# Altium integrated library TI Data Converters Analog to Digital Converter.IntLib: 2198 symbols (part 23 of 164)
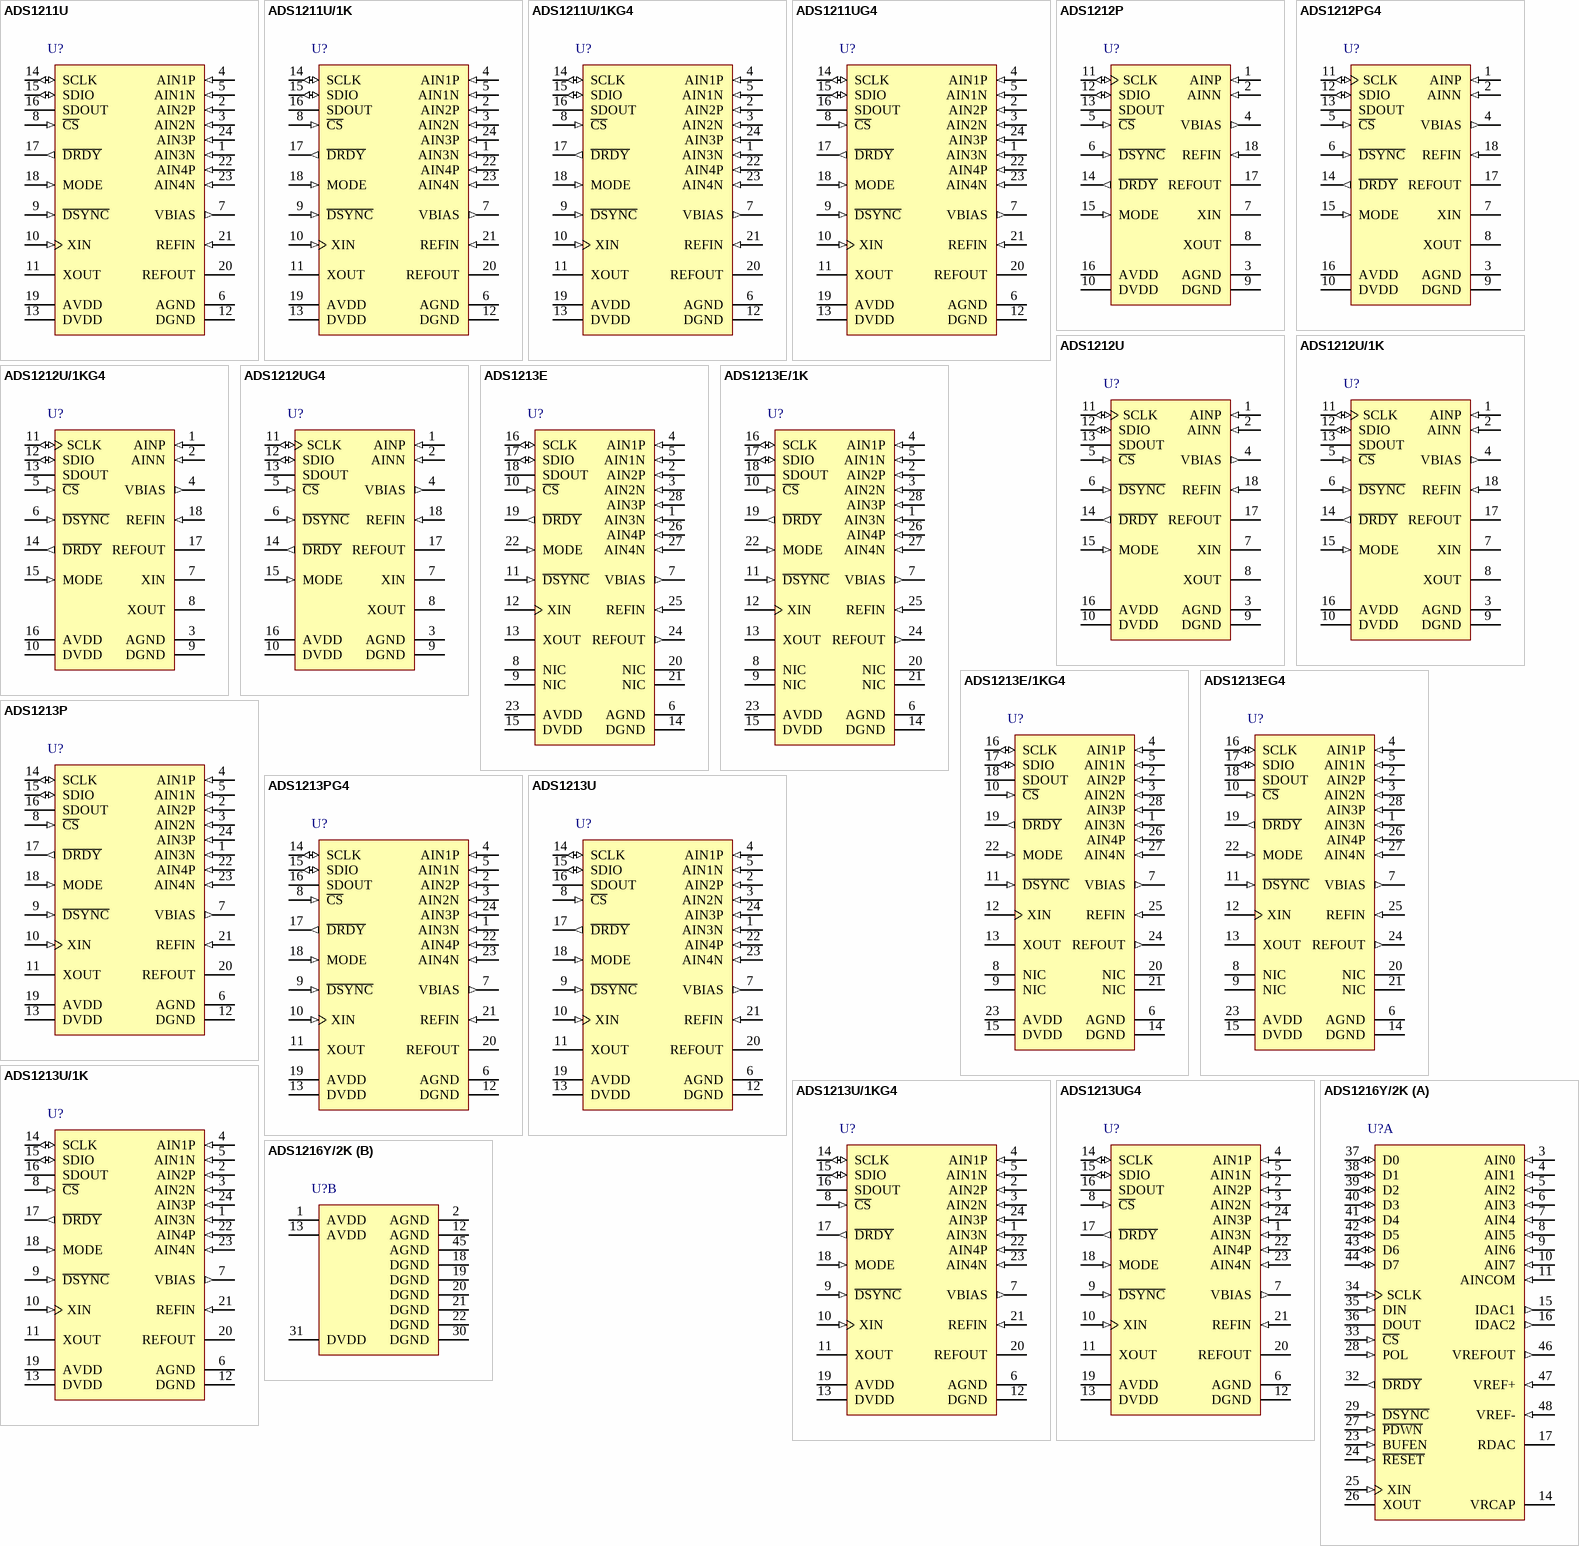
[diagram p148: symbols ADS1211U to ADS1216Y/2K]

## ADS1211UG4
designator U?
24-Bit ADC, -40 to 85 degC, 24-pin SOIC (DW24), Green (RoHS & no Sb/Br); Manufacturer: Texas Instruments; PartNumber: ADS1211UG4; # Input Channels: 4; Analog Voltage AV/DD(Max)(V): 5.25; Analog Voltage AV/DD(Min)(V): 4.75; Architecture: Delta-Sigma; Interface: Serial SPI; Resolution(Bits): 24; Sample Rate (max)(SPS): 16k; SubFamily: Precision ADC (<=10MSPS); DatasheetVersion: SBAS034B; PackageVersion: 4040000-5/G, 01/2011; PackageReference: DW24; PackageDescription: 24-Pin Plastic Small Outline, Body 15.4 x 7.5 mm, Pitch 1.27 mm; Supplier 1: Digi-Key; Supplier Part Number 1: 296-29487-2-ND; Digital Supply(Max)(V): 5.25; Digital Supply(Min)(V): 4.75; Eco-Plan: Green (RoHS & no Sb/Br); Mounting Technology: Surface Mount; Code_JEDEC: MS-013; ComponentLink1Description: Manufacturer URL; ComponentLink1URL: http://www.ti.com/; ComponentLink2Description: Datasheet; ComponentLink2URL: http://www.ti.com/general/docs/lit/getliterature.tsp?genericPartNumber=ADS1211&fileType=pdf; ComponentLink3Description: Package Specification; ComponentLink3URL: http://www.ti.com/litv/pdf/mpds174a
footprint TI-DW24_N (SOIC, 24-Leads, Body 15.4x7.5mm, Pitch 1.27mm, IPC Medium Density)
footprint TI-DW24_L (SOIC, 24-Leads, Body 15.4x7.5mm, Pitch 1.27mm, IPC High Density)
footprint TI-DW24_M (SOIC, 24-Leads, Body 15.4x7.5mm, Pitch 1.27mm, IPC Low Density)
pins: 1 AIN3N (in) "Inverting Input Channel 3.", 2 AIN2P (in) "Noninverting Input Channel 2.", 3 AIN2N (in) "Inverting Input Channel 2.", 4 AIN1P (in) "Noninverting Input Channel 1.", 5 AIN1N (in) "Inverting Input Channel 1.", 6 AGND (power) "Analog Ground.", 7 VBIAS (out) "Bias Voltage Output, +3.3V nominal.", 8 ~{CS} (in) "Chip Select Input.", 9 ~{DSYNC} (in) "Control Input to Synchronize Serial Output Data.", 10 XIN (in) "System Clock Input.", 11 XOUT "System Clock Output.", 12 DGND (power) "Digital Ground.", 13 DVDD (power) "Digital Supply, +5V nominal.", 14 SCLK (io) "Clock Input/Output for serial data transfer.", 15 SDIO (io) "Serial Data Input (can also function as Serial Data Output).", 16 SDOUT (hiz) "Serial Data Output.", 17 ~{DRDY} (out) "Data Ready.", 18 MODE (in) "SCLK Control Input (Master = 1, Slave = 0).", 19 AVDD (power) "Analog Supply, +5V nominal.", 20 REFOUT (hiz) "Reference Output: +2.5V nominal.", 21 REFIN (in) "Reference Input.", 22 AIN4P (in) "Noninverting Input Channel 4.", 23 AIN4N (in) "Inverting Input Channel 4.", 24 AIN3P (in) "Noninverting Input Channel 3."

## ADS1212P
designator U?
22-Bit ADC, -40 to 85 degC, 18-pin DIP (N18), Green (RoHS & no Sb/Br); Manufacturer: Texas Instruments; PartNumber: ADS1212P; # Input Channels: 1; Analog Voltage AV/DD(Max)(V): 5.25; Analog Voltage AV/DD(Min)(V): 4.75; Architecture: Delta-Sigma; Interface: Serial SPI; Resolution(Bits): 22; Sample Rate (max)(SPS): 6.25k; SubFamily: Precision ADC (<=10MSPS); DatasheetVersion: SBAS064B; PackageVersion: 4040049/E, 12/2002; PackageReference: N18; PackageDescription: 18-Pin Plastic In-Line, Body 22.48 x 6.35 mm, Pitch 2.54 mm; Supplier 1: Digi-Key; Supplier Part Number 1: 296-25897-2-ND; Digital Supply(Max)(V): 5.25; Digital Supply(Min)(V): 4.75; Eco-Plan: Green (RoHS & no Sb/Br); Mounting Technology: Through Hole; Code_JEDEC: MS-001; ComponentLink1Description: Manufacturer URL; ComponentLink1URL: http://www.ti.com/; ComponentLink2Description: Datasheet; ComponentLink2URL: http://www.ti.com/general/docs/lit/getliterature.tsp?genericPartNumber=ADS1212&fileType=pdf; ComponentLink3Description: Package Specification; ComponentLink3URL: http://www.ti.com/lit/ml/mpdi002c/mpdi002c.pdf
footprint TI-N18 (DIP, 18-Leads, Body 22.48x6.35 mm, Pitch 2.54 mm)
pins: 1 AINP (in) "Noninverting Input.", 2 AINN (in) "Inverting Input.", 3 AGND (power) "Analog Ground.", 4 VBIAS (out) "Bias Voltage Output, +3.3V nominal.", 5 ~{CS} (in) "Chip Select Input.", 6 ~{DSYNC} (in) "Control Input to Synchronize Serial Output Data.", 7 XIN "System Clock Input.", 8 XOUT "System Clock Output.", 9 DGND (power) "Digital Ground.", 10 DVDD (power) "Digital Supply, +5V nominal.", 11 SCLK (io) "Clock Input/Output for serial data transfer.", 12 SDIO (io) "Serial Data Input (can also function as Serial Data Output).", 13 SDOUT (hiz) "Serial Data Output.", 14 ~{DRDY} (out) "Data Ready.", 15 MODE (in) "SCLK Control Input (Master = 1, Slave = 0).", 16 AVDD (power) "Analog Supply, +5V nominal.", 17 REFOUT (hiz) "Reference Output, +2.5V nominal.", 18 REFIN (in) "Reference Input."

## ADS1212PG4
designator U?
22-Bit ADC, -40 to 85 degC, 18-pin DIP (N18), Green (RoHS & no Sb/Br); Manufacturer: Texas Instruments; PartNumber: ADS1212PG4; # Input Channels: 1; Analog Voltage AV/DD(Max)(V): 5.25; Analog Voltage AV/DD(Min)(V): 4.75; Architecture: Delta-Sigma; Interface: Serial SPI; Resolution(Bits): 22; Sample Rate (max)(SPS): 6.25k; SubFamily: Precision ADC (<=10MSPS); DatasheetVersion: SBAS064B; PackageVersion: 4040049/E, 12/2002; PackageReference: N18; PackageDescription: 18-Pin Plastic In-Line, Body 22.48 x 6.35 mm, Pitch 2.54 mm; Supplier 1: Digi-Key; Supplier Part Number 1: ADS1255IDBRG4-ND; Digital Supply(Max)(V): 5.25; Digital Supply(Min)(V): 4.75; Eco-Plan: Green (RoHS & no Sb/Br); Mounting Technology: Through Hole; Code_JEDEC: MS-001; ComponentLink1Description: Manufacturer URL; ComponentLink1URL: http://www.ti.com/; ComponentLink2Description: Datasheet; ComponentLink2URL: http://www.ti.com/general/docs/lit/getliterature.tsp?genericPartNumber=ADS1212&fileType=pdf; ComponentLink3Description: Package Specification; ComponentLink3URL: http://www.ti.com/lit/ml/mpdi002c/mpdi002c.pdf
footprint TI-N18 (DIP, 18-Leads, Body 22.48x6.35 mm, Pitch 2.54 mm)
pins: 1 AINP (in) "Noninverting Input.", 2 AINN (in) "Inverting Input.", 3 AGND (power) "Analog Ground.", 4 VBIAS (out) "Bias Voltage Output, +3.3V nominal.", 5 ~{CS} (in) "Chip Select Input.", 6 ~{DSYNC} (in) "Control Input to Synchronize Serial Output Data.", 7 XIN "System Clock Input.", 8 XOUT "System Clock Output.", 9 DGND (power) "Digital Ground.", 10 DVDD (power) "Digital Supply, +5V nominal.", 11 SCLK (io) "Clock Input/Output for serial data transfer.", 12 SDIO (io) "Serial Data Input (can also function as Serial Data Output).", 13 SDOUT (hiz) "Serial Data Output.", 14 ~{DRDY} (out) "Data Ready.", 15 MODE (in) "SCLK Control Input (Master = 1, Slave = 0).", 16 AVDD (power) "Analog Supply, +5V nominal.", 17 REFOUT (hiz) "Reference Output, +2.5V nominal.", 18 REFIN (in) "Reference Input."

## ADS1212U
designator U?
22-Bit ADC, -40 to 85 degC, 18-pin SOP (DTC18), Green (RoHS & no Sb/Br); Manufacturer: Texas Instruments; PartNumber: ADS1212U; # Input Channels: 1; Analog Voltage AV/DD(Max)(V): 5.25; Analog Voltage AV/DD(Min)(V): 4.75; Architecture: Delta-Sigma; Interface: Serial SPI; Resolution(Bits): 22; Sample Rate (max)(SPS): 6.25k; SubFamily: Precision ADC (<=10MSPS); DatasheetVersion: SBAS064B; PackageVersion: 4202498/A, 03/2001; PackageReference: DTC18; PackageDescription: 18-Pin Plastic Small Outline, Body 7.5 x 11.55 mm, Pitch 1.27 mm; Supplier 1: Digi-Key; Supplier Part Number 1: 296-15743-2-ND; Digital Supply(Max)(V): 5.25; Digital Supply(Min)(V): 4.75; Eco-Plan: Green (RoHS & no Sb/Br); Mounting Technology: Surface Mount; Code_JEDEC: MS-013-AB; ComponentLink1Description: Manufacturer URL; ComponentLink1URL: http://www.ti.com/; ComponentLink2Description: Datasheet; ComponentLink2URL: http://www.ti.com/general/docs/lit/getliterature.tsp?genericPartNumber=ADS1212&fileType=pdf; ComponentLink3Description: Package Specification; ComponentLink3URL: http://www.ti.com/litv/pdf/mpds095
footprint TI-DTC18_N (SOP, 18-Leads, Body 11.5x7.5mm, Pitch 1.27mm, IPC Medium Density)
footprint TI-DTC18_L (SOP, 18-Leads, Body 11.5x7.5mm, Pitch 1.27mm, IPC High Density)
footprint TI-DTC18_M (SOP, 18-Leads, Body 11.5x7.5mm, Pitch 1.27mm, IPC Low Density)
pins: 1 AINP (in) "Noninverting Input.", 2 AINN (in) "Inverting Input.", 3 AGND (power) "Analog Ground.", 4 VBIAS (out) "Bias Voltage Output, +3.3V nominal.", 5 ~{CS} (in) "Chip Select Input.", 6 ~{DSYNC} (in) "Control Input to Synchronize Serial Output Data.", 7 XIN "System Clock Input.", 8 XOUT "System Clock Output.", 9 DGND (power) "Digital Ground.", 10 DVDD (power) "Digital Supply, +5V nominal.", 11 SCLK (io) "Clock Input/Output for serial data transfer.", 12 SDIO (io) "Serial Data Input (can also function as Serial Data Output).", 13 SDOUT (hiz) "Serial Data Output.", 14 ~{DRDY} (out) "Data Ready.", 15 MODE (in) "SCLK Control Input (Master = 1, Slave = 0).", 16 AVDD (power) "Analog Supply, +5V nominal.", 17 REFOUT (hiz) "Reference Output, +2.5V nominal.", 18 REFIN (in) "Reference Input."

## ADS1212U/1K
designator U?
22-Bit ADC, -40 to 85 degC, 18-pin SOP (DTC18), Green (RoHS & no Sb/Br); Manufacturer: Texas Instruments; PartNumber: ADS1212U/1K; # Input Channels: 1; Analog Voltage AV/DD(Max)(V): 5.25; Analog Voltage AV/DD(Min)(V): 4.75; Architecture: Delta-Sigma; Interface: Serial SPI; Resolution(Bits): 22; Sample Rate (max)(SPS): 6.25k; SubFamily: Precision ADC (<=10MSPS); DatasheetVersion: SBAS064B; PackageVersion: 4202498/A, 03/2001; PackageReference: DTC18; PackageDescription: 18-Pin Plastic Small Outline, Body 7.5 x 11.55 mm, Pitch 1.27 mm; Supplier 1: Digi-Key; Supplier Part Number 1: ADS1255IDBTG4-ND; Digital Supply(Max)(V): 5.25; Digital Supply(Min)(V): 4.75; Eco-Plan: Green (RoHS & no Sb/Br); Mounting Technology: Surface Mount; Code_JEDEC: MS-013-AB; ComponentLink1Description: Manufacturer URL; ComponentLink1URL: http://www.ti.com/; ComponentLink2Description: Datasheet; ComponentLink2URL: http://www.ti.com/general/docs/lit/getliterature.tsp?genericPartNumber=ADS1212&fileType=pdf; ComponentLink3Description: Package Specification; ComponentLink3URL: http://www.ti.com/litv/pdf/mpds095
footprint TI-DTC18_N (SOP, 18-Leads, Body 11.5x7.5mm, Pitch 1.27mm, IPC Medium Density)
footprint TI-DTC18_L (SOP, 18-Leads, Body 11.5x7.5mm, Pitch 1.27mm, IPC High Density)
footprint TI-DTC18_M (SOP, 18-Leads, Body 11.5x7.5mm, Pitch 1.27mm, IPC Low Density)
pins: 1 AINP (in) "Noninverting Input.", 2 AINN (in) "Inverting Input.", 3 AGND (power) "Analog Ground.", 4 VBIAS (out) "Bias Voltage Output, +3.3V nominal.", 5 ~{CS} (in) "Chip Select Input.", 6 ~{DSYNC} (in) "Control Input to Synchronize Serial Output Data.", 7 XIN "System Clock Input.", 8 XOUT "System Clock Output.", 9 DGND (power) "Digital Ground.", 10 DVDD (power) "Digital Supply, +5V nominal.", 11 SCLK (io) "Clock Input/Output for serial data transfer.", 12 SDIO (io) "Serial Data Input (can also function as Serial Data Output).", 13 SDOUT (hiz) "Serial Data Output.", 14 ~{DRDY} (out) "Data Ready.", 15 MODE (in) "SCLK Control Input (Master = 1, Slave = 0).", 16 AVDD (power) "Analog Supply, +5V nominal.", 17 REFOUT (hiz) "Reference Output, +2.5V nominal.", 18 REFIN (in) "Reference Input."

## ADS1212U/1KG4
designator U?
22-Bit ADC, -40 to 85 degC, 18-pin SOP (DTC18), Green (RoHS & no Sb/Br); Manufacturer: Texas Instruments; PartNumber: ADS1212U/1KG4; # Input Channels: 1; Analog Voltage AV/DD(Max)(V): 5.25; Analog Voltage AV/DD(Min)(V): 4.75; Architecture: Delta-Sigma; Interface: Serial SPI; Resolution(Bits): 22; Sample Rate (max)(SPS): 6.25k; SubFamily: Precision ADC (<=10MSPS); DatasheetVersion: SBAS064B; PackageVersion: 4202498/A, 03/2001; PackageReference: DTC18; PackageDescription: 18-Pin Plastic Small Outline, Body 7.5 x 11.55 mm, Pitch 1.27 mm; Supplier 1: Digi-Key; Supplier Part Number 1: 296-32826-5-ND; Digital Supply(Max)(V): 5.25; Digital Supply(Min)(V): 4.75; Eco-Plan: Green (RoHS & no Sb/Br); Mounting Technology: Surface Mount; Code_JEDEC: MS-013-AB; ComponentLink1Description: Manufacturer URL; ComponentLink1URL: http://www.ti.com/; ComponentLink2Description: Datasheet; ComponentLink2URL: http://www.ti.com/general/docs/lit/getliterature.tsp?genericPartNumber=ADS1212&fileType=pdf; ComponentLink3Description: Package Specification; ComponentLink3URL: http://www.ti.com/litv/pdf/mpds095
footprint TI-DTC18_N (SOP, 18-Leads, Body 11.5x7.5mm, Pitch 1.27mm, IPC Medium Density)
footprint TI-DTC18_L (SOP, 18-Leads, Body 11.5x7.5mm, Pitch 1.27mm, IPC High Density)
footprint TI-DTC18_M (SOP, 18-Leads, Body 11.5x7.5mm, Pitch 1.27mm, IPC Low Density)
pins: 1 AINP (in) "Noninverting Input.", 2 AINN (in) "Inverting Input.", 3 AGND (power) "Analog Ground.", 4 VBIAS (out) "Bias Voltage Output, +3.3V nominal.", 5 ~{CS} (in) "Chip Select Input.", 6 ~{DSYNC} (in) "Control Input to Synchronize Serial Output Data.", 7 XIN "System Clock Input.", 8 XOUT "System Clock Output.", 9 DGND (power) "Digital Ground.", 10 DVDD (power) "Digital Supply, +5V nominal.", 11 SCLK (io) "Clock Input/Output for serial data transfer.", 12 SDIO (io) "Serial Data Input (can also function as Serial Data Output).", 13 SDOUT (hiz) "Serial Data Output.", 14 ~{DRDY} (out) "Data Ready.", 15 MODE (in) "SCLK Control Input (Master = 1, Slave = 0).", 16 AVDD (power) "Analog Supply, +5V nominal.", 17 REFOUT (hiz) "Reference Output, +2.5V nominal.", 18 REFIN (in) "Reference Input."

## ADS1212UG4
designator U?
22-Bit ADC, -40 to 85 degC, 18-pin SOP (DTC18), Green (RoHS & no Sb/Br); Manufacturer: Texas Instruments; PartNumber: ADS1212UG4; # Input Channels: 1; Analog Voltage AV/DD(Max)(V): 5.25; Analog Voltage AV/DD(Min)(V): 4.75; Architecture: Delta-Sigma; Interface: Serial SPI; Resolution(Bits): 22; Sample Rate (max)(SPS): 6.25k; SubFamily: Precision ADC (<=10MSPS); DatasheetVersion: SBAS064B; PackageVersion: 4202498/A, 03/2001; PackageReference: DTC18; PackageDescription: 18-Pin Plastic Small Outline, Body 7.5 x 11.55 mm, Pitch 1.27 mm; Supplier 1: Digi-Key; Supplier Part Number 1: ADS8345N/1K-ND; Digital Supply(Max)(V): 5.25; Digital Supply(Min)(V): 4.75; Eco-Plan: Green (RoHS & no Sb/Br); Mounting Technology: Surface Mount; Code_JEDEC: MS-013-AB; ComponentLink1Description: Manufacturer URL; ComponentLink1URL: http://www.ti.com/; ComponentLink2Description: Datasheet; ComponentLink2URL: http://www.ti.com/general/docs/lit/getliterature.tsp?genericPartNumber=ADS1212&fileType=pdf; ComponentLink3Description: Package Specification; ComponentLink3URL: http://www.ti.com/litv/pdf/mpds095
footprint TI-DTC18_N (SOP, 18-Leads, Body 11.5x7.5mm, Pitch 1.27mm, IPC Medium Density)
footprint TI-DTC18_L (SOP, 18-Leads, Body 11.5x7.5mm, Pitch 1.27mm, IPC High Density)
footprint TI-DTC18_M (SOP, 18-Leads, Body 11.5x7.5mm, Pitch 1.27mm, IPC Low Density)
pins: 1 AINP (in) "Noninverting Input.", 2 AINN (in) "Inverting Input.", 3 AGND (power) "Analog Ground.", 4 VBIAS (out) "Bias Voltage Output, +3.3V nominal.", 5 ~{CS} (in) "Chip Select Input.", 6 ~{DSYNC} (in) "Control Input to Synchronize Serial Output Data.", 7 XIN "System Clock Input.", 8 XOUT "System Clock Output.", 9 DGND (power) "Digital Ground.", 10 DVDD (power) "Digital Supply, +5V nominal.", 11 SCLK (io) "Clock Input/Output for serial data transfer.", 12 SDIO (io) "Serial Data Input (can also function as Serial Data Output).", 13 SDOUT (hiz) "Serial Data Output.", 14 ~{DRDY} (out) "Data Ready.", 15 MODE (in) "SCLK Control Input (Master = 1, Slave = 0).", 16 AVDD (power) "Analog Supply, +5V nominal.", 17 REFOUT (hiz) "Reference Output, +2.5V nominal.", 18 REFIN (in) "Reference Input."

## ADS1213E
designator U?
22-Bit ADC, -40 to 85 degC, 28-pin SOP (DB28), Green (RoHS & no Sb/Br); Manufacturer: Texas Instruments; PartNumber: ADS1213E; # Input Channels: 4; Analog Voltage AV/DD(Max)(V): 5.25; Analog Voltage AV/DD(Min)(V): 4.75; Architecture: Delta-Sigma; Interface: Serial SPI; Resolution(Bits): 22; Sample Rate (max)(SPS): 6.25k; SubFamily: Precision ADC (<=10MSPS); DatasheetVersion: SBAS064B; PackageVersion: 4040065/E, 12/2001; PackageReference: DB28; PackageDescription: 28-Pin Plastic Small Outline, Body 10.2 X 5.3 mm, Pitch 0.65 mm; Supplier 1: Digi-Key; Supplier Part Number 1: ADS8345N/1KG4-ND; Digital Supply(Max)(V): 5.25; Digital Supply(Min)(V): 4.75; Eco-Plan: Green (RoHS & no Sb/Br); Mounting Technology: Surface Mount; Code_JEDEC: MO-150; ComponentLink1Description: Manufacturer URL; ComponentLink1URL: http://www.ti.com/; ComponentLink2Description: Datasheet; ComponentLink2URL: http://www.ti.com/general/docs/lit/getliterature.tsp?genericPartNumber=ADS1213&fileType=pdf; ComponentLink3Description: Package Specification; ComponentLink3URL: http://www.ti.com/lit/ml/msso002e/msso002e.pdf
footprint TI-DB28_N (SOP, 28-Leads, Body 10.2x5.3mm, Pitch 0.65mm, IPC Medium Density)
footprint TI-DB28_L (SOP, 28-Leads, Body 10.2x5.3mm, Pitch 0.65mm, IPC High Density)
footprint TI-DB28_M (SOP, 28-Leads, Body 10.2x5.3mm, Pitch 0.65mm, IPC Low Density)
pins: 1 AIN3N (in) "Inverting Input Channel 3.", 2 AIN2P (in) "Noninverting Input Channel 2.", 3 AIN2N (in) "Inverting Input Channel 2.", 4 AIN1P (in) "Noninverting Input Channel 1.", 5 AIN1N (in) "Inverting Input Channel 1.", 6 AGND (power) "Analog Ground.", 7 VBIAS (out) "Bias Voltage Output, +3.3V nominal.", 8 NIC "Not Internally Connected.", 9 NIC "Not Internally Connected.", 10 ~{CS} (in) "Chip Select Input.", 11 ~{DSYNC} (in) "Control Input to Synchronize Serial Output Data.", 12 XIN "System Clock Input.", 13 XOUT "System Clock Output.", 14 DGND (power) "Digital Ground.", 15 DVDD (power) "Digital Supply, +5V nominal.", 16 SCLK (io) "Clock Input/Output for serial data transfer.", 17 SDIO (io) "Serial Data Input (can also function as Serial Data Output).", 18 SDOUT (hiz) "Serial Data Output.", 19 ~{DRDY} (out) "Data Ready.", 20 NIC "Not Internally Connected.", 21 NIC "Not Internally Connected.", 22 MODE (in) "SCLK Control Input (Master = 1, Slave = 0).", 23 AVDD (power) "Analog Supply, +5V nominal.", 24 REFOUT (out) "Reference Output: +2.5V nominal.", 25 REFIN (in) "Reference Input.", 26 AIN4P (in) "Noninverting Input Channel 4.", 27 AIN4N (in) "Inverting Input Channel 4.", 28 AIN3P (in) "Noninverting Input Channel 3."

## ADS1213E/1K
designator U?
22-Bit ADC, -40 to 85 degC, 28-pin SOP (DB28), Green (RoHS & no Sb/Br); Manufacturer: Texas Instruments; PartNumber: ADS1213E/1K; # Input Channels: 4; Analog Voltage AV/DD(Max)(V): 5.25; Analog Voltage AV/DD(Min)(V): 4.75; Architecture: Delta-Sigma; Interface: Serial SPI; Resolution(Bits): 22; Sample Rate (max)(SPS): 6.25k; SubFamily: Precision ADC (<=10MSPS); DatasheetVersion: SBAS064B; PackageVersion: 4040065/E, 12/2001; PackageReference: DB28; PackageDescription: 28-Pin Plastic Small Outline, Body 10.2 X 5.3 mm, Pitch 0.65 mm; Supplier 1: Digi-Key; Supplier Part Number 1: 296-11626-5-ND; Digital Supply(Max)(V): 5.25; Digital Supply(Min)(V): 4.75; Eco-Plan: Green (RoHS & no Sb/Br); Mounting Technology: Surface Mount; Code_JEDEC: MO-150; ComponentLink1Description: Manufacturer URL; ComponentLink1URL: http://www.ti.com/; ComponentLink2Description: Datasheet; ComponentLink2URL: http://www.ti.com/general/docs/lit/getliterature.tsp?genericPartNumber=ADS1213&fileType=pdf; ComponentLink3Description: Package Specification; ComponentLink3URL: http://www.ti.com/lit/ml/msso002e/msso002e.pdf
footprint TI-DB28_N (SOP, 28-Leads, Body 10.2x5.3mm, Pitch 0.65mm, IPC Medium Density)
footprint TI-DB28_L (SOP, 28-Leads, Body 10.2x5.3mm, Pitch 0.65mm, IPC High Density)
footprint TI-DB28_M (SOP, 28-Leads, Body 10.2x5.3mm, Pitch 0.65mm, IPC Low Density)
pins: 1 AIN3N (in) "Inverting Input Channel 3.", 2 AIN2P (in) "Noninverting Input Channel 2.", 3 AIN2N (in) "Inverting Input Channel 2.", 4 AIN1P (in) "Noninverting Input Channel 1.", 5 AIN1N (in) "Inverting Input Channel 1.", 6 AGND (power) "Analog Ground.", 7 VBIAS (out) "Bias Voltage Output, +3.3V nominal.", 8 NIC "Not Internally Connected.", 9 NIC "Not Internally Connected.", 10 ~{CS} (in) "Chip Select Input.", 11 ~{DSYNC} (in) "Control Input to Synchronize Serial Output Data.", 12 XIN "System Clock Input.", 13 XOUT "System Clock Output.", 14 DGND (power) "Digital Ground.", 15 DVDD (power) "Digital Supply, +5V nominal.", 16 SCLK (io) "Clock Input/Output for serial data transfer.", 17 SDIO (io) "Serial Data Input (can also function as Serial Data Output).", 18 SDOUT (hiz) "Serial Data Output.", 19 ~{DRDY} (out) "Data Ready.", 20 NIC "Not Internally Connected.", 21 NIC "Not Internally Connected.", 22 MODE (in) "SCLK Control Input (Master = 1, Slave = 0).", 23 AVDD (power) "Analog Supply, +5V nominal.", 24 REFOUT (out) "Reference Output: +2.5V nominal.", 25 REFIN (in) "Reference Input.", 26 AIN4P (in) "Noninverting Input Channel 4.", 27 AIN4N (in) "Inverting Input Channel 4.", 28 AIN3P (in) "Noninverting Input Channel 3."

## ADS1213E/1KG4
designator U?
22-Bit ADC, -40 to 85 degC, 28-pin SOP (DB28), Green (RoHS & no Sb/Br); Manufacturer: Texas Instruments; PartNumber: ADS1213E/1KG4; # Input Channels: 4; Analog Voltage AV/DD(Max)(V): 5.25; Analog Voltage AV/DD(Min)(V): 4.75; Architecture: Delta-Sigma; Interface: Serial SPI; Resolution(Bits): 22; Sample Rate (max)(SPS): 6.25k; SubFamily: Precision ADC (<=10MSPS); DatasheetVersion: SBAS064B; PackageVersion: 4040065/E, 12/2001; PackageReference: DB28; PackageDescription: 28-Pin Plastic Small Outline, Body 10.2 X 5.3 mm, Pitch 0.65 mm; Supplier 1: Digi-Key; Supplier Part Number 1: ADS8345NBG4-ND; Digital Supply(Max)(V): 5.25; Digital Supply(Min)(V): 4.75; Eco-Plan: Green (RoHS & no Sb/Br); Mounting Technology: Surface Mount; Code_JEDEC: MO-150; ComponentLink1Description: Manufacturer URL; ComponentLink1URL: http://www.ti.com/; ComponentLink2Description: Datasheet; ComponentLink2URL: http://www.ti.com/general/docs/lit/getliterature.tsp?genericPartNumber=ADS1213&fileType=pdf; ComponentLink3Description: Package Specification; ComponentLink3URL: http://www.ti.com/lit/ml/msso002e/msso002e.pdf
footprint TI-DB28_N (SOP, 28-Leads, Body 10.2x5.3mm, Pitch 0.65mm, IPC Medium Density)
footprint TI-DB28_L (SOP, 28-Leads, Body 10.2x5.3mm, Pitch 0.65mm, IPC High Density)
footprint TI-DB28_M (SOP, 28-Leads, Body 10.2x5.3mm, Pitch 0.65mm, IPC Low Density)
pins: 1 AIN3N (in) "Inverting Input Channel 3.", 2 AIN2P (in) "Noninverting Input Channel 2.", 3 AIN2N (in) "Inverting Input Channel 2.", 4 AIN1P (in) "Noninverting Input Channel 1.", 5 AIN1N (in) "Inverting Input Channel 1.", 6 AGND (power) "Analog Ground.", 7 VBIAS (out) "Bias Voltage Output, +3.3V nominal.", 8 NIC "Not Internally Connected.", 9 NIC "Not Internally Connected.", 10 ~{CS} (in) "Chip Select Input.", 11 ~{DSYNC} (in) "Control Input to Synchronize Serial Output Data.", 12 XIN "System Clock Input.", 13 XOUT "System Clock Output.", 14 DGND (power) "Digital Ground.", 15 DVDD (power) "Digital Supply, +5V nominal.", 16 SCLK (io) "Clock Input/Output for serial data transfer.", 17 SDIO (io) "Serial Data Input (can also function as Serial Data Output).", 18 SDOUT (hiz) "Serial Data Output.", 19 ~{DRDY} (out) "Data Ready.", 20 NIC "Not Internally Connected.", 21 NIC "Not Internally Connected.", 22 MODE (in) "SCLK Control Input (Master = 1, Slave = 0).", 23 AVDD (power) "Analog Supply, +5V nominal.", 24 REFOUT (out) "Reference Output: +2.5V nominal.", 25 REFIN (in) "Reference Input.", 26 AIN4P (in) "Noninverting Input Channel 4.", 27 AIN4N (in) "Inverting Input Channel 4.", 28 AIN3P (in) "Noninverting Input Channel 3."

## ADS1213EG4
designator U?
22-Bit ADC, -40 to 85 degC, 28-pin SOP (DB28), Green (RoHS & no Sb/Br); Manufacturer: Texas Instruments; PartNumber: ADS1213EG4; # Input Channels: 4; Analog Voltage AV/DD(Max)(V): 5.25; Analog Voltage AV/DD(Min)(V): 4.75; Architecture: Delta-Sigma; Interface: Serial SPI; Resolution(Bits): 22; Sample Rate (max)(SPS): 6.25k; SubFamily: Precision ADC (<=10MSPS); DatasheetVersion: SBAS064B; PackageVersion: 4040065/E, 12/2001; PackageReference: DB28; PackageDescription: 28-Pin Plastic Small Outline, Body 10.2 X 5.3 mm, Pitch 0.65 mm; Supplier 1: Digi-Key; Supplier Part Number 1: ADS8345NG4-ND; Digital Supply(Max)(V): 5.25; Digital Supply(Min)(V): 4.75; Eco-Plan: Green (RoHS & no Sb/Br); Mounting Technology: Surface Mount; Code_JEDEC: MO-150; ComponentLink1Description: Manufacturer URL; ComponentLink1URL: http://www.ti.com/; ComponentLink2Description: Datasheet; ComponentLink2URL: http://www.ti.com/general/docs/lit/getliterature.tsp?genericPartNumber=ADS1213&fileType=pdf; ComponentLink3Description: Package Specification; ComponentLink3URL: http://www.ti.com/lit/ml/msso002e/msso002e.pdf
footprint TI-DB28_N (SOP, 28-Leads, Body 10.2x5.3mm, Pitch 0.65mm, IPC Medium Density)
footprint TI-DB28_L (SOP, 28-Leads, Body 10.2x5.3mm, Pitch 0.65mm, IPC High Density)
footprint TI-DB28_M (SOP, 28-Leads, Body 10.2x5.3mm, Pitch 0.65mm, IPC Low Density)
pins: 1 AIN3N (in) "Inverting Input Channel 3.", 2 AIN2P (in) "Noninverting Input Channel 2.", 3 AIN2N (in) "Inverting Input Channel 2.", 4 AIN1P (in) "Noninverting Input Channel 1.", 5 AIN1N (in) "Inverting Input Channel 1.", 6 AGND (power) "Analog Ground.", 7 VBIAS (out) "Bias Voltage Output, +3.3V nominal.", 8 NIC "Not Internally Connected.", 9 NIC "Not Internally Connected.", 10 ~{CS} (in) "Chip Select Input.", 11 ~{DSYNC} (in) "Control Input to Synchronize Serial Output Data.", 12 XIN "System Clock Input.", 13 XOUT "System Clock Output.", 14 DGND (power) "Digital Ground.", 15 DVDD (power) "Digital Supply, +5V nominal.", 16 SCLK (io) "Clock Input/Output for serial data transfer.", 17 SDIO (io) "Serial Data Input (can also function as Serial Data Output).", 18 SDOUT (hiz) "Serial Data Output.", 19 ~{DRDY} (out) "Data Ready.", 20 NIC "Not Internally Connected.", 21 NIC "Not Internally Connected.", 22 MODE (in) "SCLK Control Input (Master = 1, Slave = 0).", 23 AVDD (power) "Analog Supply, +5V nominal.", 24 REFOUT (out) "Reference Output: +2.5V nominal.", 25 REFIN (in) "Reference Input.", 26 AIN4P (in) "Noninverting Input Channel 4.", 27 AIN4N (in) "Inverting Input Channel 4.", 28 AIN3P (in) "Noninverting Input Channel 3."

## ADS1213P
designator U?
22-Bit ADC, -40 to 85 degC, 24-pin DIP (NT24), Green (RoHS & no Sb/Br); Manufacturer: Texas Instruments; PartNumber: ADS1213P; # Input Channels: 4; Analog Voltage AV/DD(Max)(V): 5.25; Analog Voltage AV/DD(Min)(V): 4.75; Architecture: Delta-Sigma; Interface: Serial SPI; Resolution(Bits): 22; Sample Rate (max)(SPS): 6.25k; SubFamily: Precision ADC (<=10MSPS); DatasheetVersion: SBAS064B; PackageVersion: 4040050/C, 04/2009; PackageReference: NT24; PackageDescription: 24-Pin Plastic Dual-In-Line Package, Body 31.64 x 6.73 mm, Pitch 2.54 mm; Supplier 1: Digi-Key; Supplier Part Number 1: ADS8344N-ND; Digital Supply(Max)(V): 5.25; Digital Supply(Min)(V): 4.75; Eco-Plan: Green (RoHS & no Sb/Br); Mounting Technology: Through Hole; ComponentLink1Description: Manufacturer URL; ComponentLink1URL: http://www.ti.com/; ComponentLink2Description: Datasheet; ComponentLink2URL: http://www.ti.com/general/docs/lit/getliterature.tsp?genericPartNumber=ADS1213&fileType=pdf; ComponentLink3Description: Package Specification; ComponentLink3URL: http://www.ti.com/litv/pdf/mpdi004a
footprint TI-NT24 (DIP, 24-Leads, Body 31.64x6.73mm, Pitch 2.54mm)
pins: 1 AIN3N (in) "Inverting Input Channel 3.", 2 AIN2P (in) "Noninverting Input Channel 2.", 3 AIN2N (in) "Inverting Input Channel 2.", 4 AIN1P (in) "Noninverting Input Channel 1.", 5 AIN1N (in) "Inverting Input Channel 1.", 6 AGND (power) "Analog Ground.", 7 VBIAS (out) "Bias Voltage Output, +3.3V nominal.", 8 ~{CS} (in) "Chip Select Input.", 9 ~{DSYNC} (in) "Control Input to Synchronize Serial Output Data.", 10 XIN (in) "System Clock Input.", 11 XOUT "System Clock Output.", 12 DGND (power) "Digital Ground.", 13 DVDD (power) "Digital Supply, +5V nominal.", 14 SCLK (io) "Clock Input/Output for serial data transfer.", 15 SDIO (io) "Serial Data Input (can also function as Serial Data Output).", 16 SDOUT (hiz) "Serial Data Output.", 17 ~{DRDY} (out) "Data Ready.", 18 MODE (in) "SCLK Control Input (Master = 1, Slave = 0).", 19 AVDD (power) "Analog Supply, +5V nominal.", 20 REFOUT (hiz) "Reference Output: +2.5V nominal.", 21 REFIN (in) "Reference Input.", 22 AIN4P (in) "Noninverting Input Channel 4.", 23 AIN4N (in) "Inverting Input Channel 4.", 24 AIN3P (in) "Noninverting Input Channel 3."

## ADS1213PG4
designator U?
22-Bit ADC, -40 to 85 degC, 24-pin DIP (NT24), Green (RoHS & no Sb/Br); Manufacturer: Texas Instruments; PartNumber: ADS1213PG4; # Input Channels: 4; Analog Voltage AV/DD(Max)(V): 5.25; Analog Voltage AV/DD(Min)(V): 4.75; Architecture: Delta-Sigma; Interface: Serial SPI; Resolution(Bits): 22; Sample Rate (max)(SPS): 6.25k; SubFamily: Precision ADC (<=10MSPS); DatasheetVersion: SBAS064B; PackageVersion: 4040050/C, 04/2009; PackageReference: NT24; PackageDescription: 24-Pin Plastic Dual-In-Line Package, Body 31.64 x 6.73 mm, Pitch 2.54 mm; Supplier 1: Digi-Key; Supplier Part Number 1: ADS8344N/1K-ND; Digital Supply(Max)(V): 5.25; Digital Supply(Min)(V): 4.75; Eco-Plan: Green (RoHS & no Sb/Br); Mounting Technology: Through Hole; ComponentLink1Description: Manufacturer URL; ComponentLink1URL: http://www.ti.com/; ComponentLink2Description: Datasheet; ComponentLink2URL: http://www.ti.com/general/docs/lit/getliterature.tsp?genericPartNumber=ADS1213&fileType=pdf; ComponentLink3Description: Package Specification; ComponentLink3URL: http://www.ti.com/litv/pdf/mpdi004a
footprint TI-NT24 (DIP, 24-Leads, Body 31.64x6.73mm, Pitch 2.54mm)
pins: 1 AIN3N (in) "Inverting Input Channel 3.", 2 AIN2P (in) "Noninverting Input Channel 2.", 3 AIN2N (in) "Inverting Input Channel 2.", 4 AIN1P (in) "Noninverting Input Channel 1.", 5 AIN1N (in) "Inverting Input Channel 1.", 6 AGND (power) "Analog Ground.", 7 VBIAS (out) "Bias Voltage Output, +3.3V nominal.", 8 ~{CS} (in) "Chip Select Input.", 9 ~{DSYNC} (in) "Control Input to Synchronize Serial Output Data.", 10 XIN (in) "System Clock Input.", 11 XOUT "System Clock Output.", 12 DGND (power) "Digital Ground.", 13 DVDD (power) "Digital Supply, +5V nominal.", 14 SCLK (io) "Clock Input/Output for serial data transfer.", 15 SDIO (io) "Serial Data Input (can also function as Serial Data Output).", 16 SDOUT (hiz) "Serial Data Output.", 17 ~{DRDY} (out) "Data Ready.", 18 MODE (in) "SCLK Control Input (Master = 1, Slave = 0).", 19 AVDD (power) "Analog Supply, +5V nominal.", 20 REFOUT (hiz) "Reference Output: +2.5V nominal.", 21 REFIN (in) "Reference Input.", 22 AIN4P (in) "Noninverting Input Channel 4.", 23 AIN4N (in) "Inverting Input Channel 4.", 24 AIN3P (in) "Noninverting Input Channel 3."

## ADS1213U
designator U?
22-Bit ADC, -40 to 85 degC, 24-pin SOIC (DW24), Green (RoHS & no Sb/Br); Manufacturer: Texas Instruments; PartNumber: ADS1213U; # Input Channels: 4; Analog Voltage AV/DD(Max)(V): 5.25; Analog Voltage AV/DD(Min)(V): 4.75; Architecture: Delta-Sigma; Interface: Serial SPI; Resolution(Bits): 22; Sample Rate (max)(SPS): 6.25k; SubFamily: Precision ADC (<=10MSPS); DatasheetVersion: SBAS064B; PackageVersion: 4040000-5/G, 01/2011; PackageReference: DW24; PackageDescription: 24-Pin Plastic Small Outline, Body 15.4 x 7.5 mm, Pitch 1.27 mm; Supplier 1: Digi-Key; Supplier Part Number 1: ADS8344N/1KG4-ND; Digital Supply(Max)(V): 5.25; Digital Supply(Min)(V): 4.75; Eco-Plan: Green (RoHS & no Sb/Br); Mounting Technology: Surface Mount; Code_JEDEC: MS-013; ComponentLink1Description: Manufacturer URL; ComponentLink1URL: http://www.ti.com/; ComponentLink2Description: Datasheet; ComponentLink2URL: http://www.ti.com/general/docs/lit/getliterature.tsp?genericPartNumber=ADS1213&fileType=pdf; ComponentLink3Description: Package Specification; ComponentLink3URL: http://www.ti.com/litv/pdf/mpds174a
footprint TI-DW24_N (SOIC, 24-Leads, Body 15.4x7.5mm, Pitch 1.27mm, IPC Medium Density)
footprint TI-DW24_L (SOIC, 24-Leads, Body 15.4x7.5mm, Pitch 1.27mm, IPC High Density)
footprint TI-DW24_M (SOIC, 24-Leads, Body 15.4x7.5mm, Pitch 1.27mm, IPC Low Density)
pins: 1 AIN3N (in) "Inverting Input Channel 3.", 2 AIN2P (in) "Noninverting Input Channel 2.", 3 AIN2N (in) "Inverting Input Channel 2.", 4 AIN1P (in) "Noninverting Input Channel 1.", 5 AIN1N (in) "Inverting Input Channel 1.", 6 AGND (power) "Analog Ground.", 7 VBIAS (out) "Bias Voltage Output, +3.3V nominal.", 8 ~{CS} (in) "Chip Select Input.", 9 ~{DSYNC} (in) "Control Input to Synchronize Serial Output Data.", 10 XIN (in) "System Clock Input.", 11 XOUT "System Clock Output.", 12 DGND (power) "Digital Ground.", 13 DVDD (power) "Digital Supply, +5V nominal.", 14 SCLK (io) "Clock Input/Output for serial data transfer.", 15 SDIO (io) "Serial Data Input (can also function as Serial Data Output).", 16 SDOUT (hiz) "Serial Data Output.", 17 ~{DRDY} (out) "Data Ready.", 18 MODE (in) "SCLK Control Input (Master = 1, Slave = 0).", 19 AVDD (power) "Analog Supply, +5V nominal.", 20 REFOUT (hiz) "Reference Output: +2.5V nominal.", 21 REFIN (in) "Reference Input.", 22 AIN4P (in) "Noninverting Input Channel 4.", 23 AIN4N (in) "Inverting Input Channel 4.", 24 AIN3P (in) "Noninverting Input Channel 3."

## ADS1213U/1K
designator U?
22-Bit ADC, -40 to 85 degC, 24-pin SOIC (DW24), Green (RoHS & no Sb/Br); Manufacturer: Texas Instruments; PartNumber: ADS1213U/1K; # Input Channels: 4; Analog Voltage AV/DD(Max)(V): 5.25; Analog Voltage AV/DD(Min)(V): 4.75; Architecture: Delta-Sigma; Interface: Serial SPI; Resolution(Bits): 22; Sample Rate (max)(SPS): 6.25k; SubFamily: Precision ADC (<=10MSPS); DatasheetVersion: SBAS064B; PackageVersion: 4040000-5/G, 01/2011; PackageReference: DW24; PackageDescription: 24-Pin Plastic Small Outline, Body 15.4 x 7.5 mm, Pitch 1.27 mm; Supplier 1: Digi-Key; Supplier Part Number 1: ADS8344NB-ND; Digital Supply(Max)(V): 5.25; Digital Supply(Min)(V): 4.75; Eco-Plan: Green (RoHS & no Sb/Br); Mounting Technology: Surface Mount; Code_JEDEC: MS-013; ComponentLink1Description: Manufacturer URL; ComponentLink1URL: http://www.ti.com/; ComponentLink2Description: Datasheet; ComponentLink2URL: http://www.ti.com/general/docs/lit/getliterature.tsp?genericPartNumber=ADS1213&fileType=pdf; ComponentLink3Description: Package Specification; ComponentLink3URL: http://www.ti.com/litv/pdf/mpds174a
footprint TI-DW24_N (SOIC, 24-Leads, Body 15.4x7.5mm, Pitch 1.27mm, IPC Medium Density)
footprint TI-DW24_L (SOIC, 24-Leads, Body 15.4x7.5mm, Pitch 1.27mm, IPC High Density)
footprint TI-DW24_M (SOIC, 24-Leads, Body 15.4x7.5mm, Pitch 1.27mm, IPC Low Density)
pins: 1 AIN3N (in) "Inverting Input Channel 3.", 2 AIN2P (in) "Noninverting Input Channel 2.", 3 AIN2N (in) "Inverting Input Channel 2.", 4 AIN1P (in) "Noninverting Input Channel 1.", 5 AIN1N (in) "Inverting Input Channel 1.", 6 AGND (power) "Analog Ground.", 7 VBIAS (out) "Bias Voltage Output, +3.3V nominal.", 8 ~{CS} (in) "Chip Select Input.", 9 ~{DSYNC} (in) "Control Input to Synchronize Serial Output Data.", 10 XIN (in) "System Clock Input.", 11 XOUT "System Clock Output.", 12 DGND (power) "Digital Ground.", 13 DVDD (power) "Digital Supply, +5V nominal.", 14 SCLK (io) "Clock Input/Output for serial data transfer.", 15 SDIO (io) "Serial Data Input (can also function as Serial Data Output).", 16 SDOUT (hiz) "Serial Data Output.", 17 ~{DRDY} (out) "Data Ready.", 18 MODE (in) "SCLK Control Input (Master = 1, Slave = 0).", 19 AVDD (power) "Analog Supply, +5V nominal.", 20 REFOUT (hiz) "Reference Output: +2.5V nominal.", 21 REFIN (in) "Reference Input.", 22 AIN4P (in) "Noninverting Input Channel 4.", 23 AIN4N (in) "Inverting Input Channel 4.", 24 AIN3P (in) "Noninverting Input Channel 3."

## ADS1213U/1KG4
designator U?
22-Bit ADC, -40 to 85 degC, 24-pin SOIC (DW24), Green (RoHS & no Sb/Br); Manufacturer: Texas Instruments; PartNumber: ADS1213U/1KG4; # Input Channels: 4; Analog Voltage AV/DD(Max)(V): 5.25; Analog Voltage AV/DD(Min)(V): 4.75; Architecture: Delta-Sigma; Interface: Serial SPI; Resolution(Bits): 22; Sample Rate (max)(SPS): 6.25k; SubFamily: Precision ADC (<=10MSPS); DatasheetVersion: SBAS064B; PackageVersion: 4040000-5/G, 01/2011; PackageReference: DW24; PackageDescription: 24-Pin Plastic Small Outline, Body 15.4 x 7.5 mm, Pitch 1.27 mm; Supplier 1: Digi-Key; Supplier Part Number 1: ADS8344NB/1K-ND; Digital Supply(Max)(V): 5.25; Digital Supply(Min)(V): 4.75; Eco-Plan: Green (RoHS & no Sb/Br); Mounting Technology: Surface Mount; Code_JEDEC: MS-013; ComponentLink1Description: Manufacturer URL; ComponentLink1URL: http://www.ti.com/; ComponentLink2Description: Datasheet; ComponentLink2URL: http://www.ti.com/general/docs/lit/getliterature.tsp?genericPartNumber=ADS1213&fileType=pdf; ComponentLink3Description: Package Specification; ComponentLink3URL: http://www.ti.com/litv/pdf/mpds174a
footprint TI-DW24_N (SOIC, 24-Leads, Body 15.4x7.5mm, Pitch 1.27mm, IPC Medium Density)
footprint TI-DW24_L (SOIC, 24-Leads, Body 15.4x7.5mm, Pitch 1.27mm, IPC High Density)
footprint TI-DW24_M (SOIC, 24-Leads, Body 15.4x7.5mm, Pitch 1.27mm, IPC Low Density)
pins: 1 AIN3N (in) "Inverting Input Channel 3.", 2 AIN2P (in) "Noninverting Input Channel 2.", 3 AIN2N (in) "Inverting Input Channel 2.", 4 AIN1P (in) "Noninverting Input Channel 1.", 5 AIN1N (in) "Inverting Input Channel 1.", 6 AGND (power) "Analog Ground.", 7 VBIAS (out) "Bias Voltage Output, +3.3V nominal.", 8 ~{CS} (in) "Chip Select Input.", 9 ~{DSYNC} (in) "Control Input to Synchronize Serial Output Data.", 10 XIN (in) "System Clock Input.", 11 XOUT "System Clock Output.", 12 DGND (power) "Digital Ground.", 13 DVDD (power) "Digital Supply, +5V nominal.", 14 SCLK (io) "Clock Input/Output for serial data transfer.", 15 SDIO (io) "Serial Data Input (can also function as Serial Data Output).", 16 SDOUT (hiz) "Serial Data Output.", 17 ~{DRDY} (out) "Data Ready.", 18 MODE (in) "SCLK Control Input (Master = 1, Slave = 0).", 19 AVDD (power) "Analog Supply, +5V nominal.", 20 REFOUT (hiz) "Reference Output: +2.5V nominal.", 21 REFIN (in) "Reference Input.", 22 AIN4P (in) "Noninverting Input Channel 4.", 23 AIN4N (in) "Inverting Input Channel 4.", 24 AIN3P (in) "Noninverting Input Channel 3."

## ADS1213UG4
designator U?
22-Bit ADC, -40 to 85 degC, 24-pin SOIC (DW24), Green (RoHS & no Sb/Br); Manufacturer: Texas Instruments; PartNumber: ADS1213UG4; # Input Channels: 4; Analog Voltage AV/DD(Max)(V): 5.25; Analog Voltage AV/DD(Min)(V): 4.75; Architecture: Delta-Sigma; Interface: Serial SPI; Resolution(Bits): 22; Sample Rate (max)(SPS): 6.25k; SubFamily: Precision ADC (<=10MSPS); DatasheetVersion: SBAS064B; PackageVersion: 4040000-5/G, 01/2011; PackageReference: DW24; PackageDescription: 24-Pin Plastic Small Outline, Body 15.4 x 7.5 mm, Pitch 1.27 mm; Supplier 1: Digi-Key; Supplier Part Number 1: ADS8344NB/1KG4-ND; Digital Supply(Max)(V): 5.25; Digital Supply(Min)(V): 4.75; Eco-Plan: Green (RoHS & no Sb/Br); Mounting Technology: Surface Mount; Code_JEDEC: MS-013; ComponentLink1Description: Manufacturer URL; ComponentLink1URL: http://www.ti.com/; ComponentLink2Description: Datasheet; ComponentLink2URL: http://www.ti.com/general/docs/lit/getliterature.tsp?genericPartNumber=ADS1213&fileType=pdf; ComponentLink3Description: Package Specification; ComponentLink3URL: http://www.ti.com/litv/pdf/mpds174a
footprint TI-DW24_N (SOIC, 24-Leads, Body 15.4x7.5mm, Pitch 1.27mm, IPC Medium Density)
footprint TI-DW24_L (SOIC, 24-Leads, Body 15.4x7.5mm, Pitch 1.27mm, IPC High Density)
footprint TI-DW24_M (SOIC, 24-Leads, Body 15.4x7.5mm, Pitch 1.27mm, IPC Low Density)
pins: 1 AIN3N (in) "Inverting Input Channel 3.", 2 AIN2P (in) "Noninverting Input Channel 2.", 3 AIN2N (in) "Inverting Input Channel 2.", 4 AIN1P (in) "Noninverting Input Channel 1.", 5 AIN1N (in) "Inverting Input Channel 1.", 6 AGND (power) "Analog Ground.", 7 VBIAS (out) "Bias Voltage Output, +3.3V nominal.", 8 ~{CS} (in) "Chip Select Input.", 9 ~{DSYNC} (in) "Control Input to Synchronize Serial Output Data.", 10 XIN (in) "System Clock Input.", 11 XOUT "System Clock Output.", 12 DGND (power) "Digital Ground.", 13 DVDD (power) "Digital Supply, +5V nominal.", 14 SCLK (io) "Clock Input/Output for serial data transfer.", 15 SDIO (io) "Serial Data Input (can also function as Serial Data Output).", 16 SDOUT (hiz) "Serial Data Output.", 17 ~{DRDY} (out) "Data Ready.", 18 MODE (in) "SCLK Control Input (Master = 1, Slave = 0).", 19 AVDD (power) "Analog Supply, +5V nominal.", 20 REFOUT (hiz) "Reference Output: +2.5V nominal.", 21 REFIN (in) "Reference Input.", 22 AIN4P (in) "Noninverting Input Channel 4.", 23 AIN4N (in) "Inverting Input Channel 4.", 24 AIN3P (in) "Noninverting Input Channel 3."

## ADS1216Y/2K
designator U?
24-Bit ADC, -40 to 85 degC, 48-pin QFP (PFB48), Green (RoHS & no Sb/Br); Manufacturer: Texas Instruments; PartNumber: ADS1216Y/2K; # Input Channels: 8; Analog Voltage AV/DD(Max)(V): 5.25; Analog Voltage AV/DD(Min)(V): 2.7; Architecture: Delta-Sigma; ENOB(Bits): 22; Interface: Serial SPI; Resolution(Bits): 24; Sample Rate (max)(SPS): 780; SubFamily: Precision ADC (<=10MSPS); DatasheetVersion: SBAS171D; PackageVersion: 4073176/B, 10/1996; PackageReference: PFB48; PackageDescription: 48-Pin Plastic Flat Pack, Body 7 x 7 mm, Pitch 0.5 mm; Supplier 1: Digi-Key; Supplier Part Number 1: ADS8344NBG4-ND; Digital Supply(Max)(V): 5.25; Digital Supply(Min)(V): 2.7; Eco-Plan: Green (RoHS & no Sb/Br); Mounting Technology: Surface Mount; Code_JEDEC: MS-026; ComponentLink1Description: Manufacturer URL; ComponentLink1URL: http://www.ti.com/; ComponentLink2Description: Datasheet; ComponentLink2URL: http://www.ti.com/general/docs/lit/getliterature.tsp?genericPartNumber=ADS1216&fileType=pdf; ComponentLink3Description: Package Specification; ComponentLink3URL: http://www.ti.com/lit/ml/mtqf019a/mtqf019a.pdf
footprint TI-PFB48_N (QFP, 48-Leads, Body 7x7mm, Pitch 0.5mm, IPC Medium Density)
footprint TI-PFB48_L (QFP, 48-Leads, Body 7x7mm, Pitch 0.5mm, IPC High Density)
footprint TI-PFB48_M (QFP, 48-Leads, Body 7x7mm, Pitch 0.5mm, IPC Low Density)
part A pins: 3 AIN0 (in) "Analog Input 0", 4 AIN1 (in) "Analog Input 1", 5 AIN2 (in) "Analog Input 2", 6 AIN3 (in) "Analog Input 3", 7 AIN4 (in) "Analog Input 4", 8 AIN5 (in) "Analog Input 5", 9 AIN6 (in) "Analog Input 6", 10 AIN7 (in) "Analog Input 7", 11 AINCOM (in) "Analog Input Common", 14 VRCAP "VREFOUT Bypass Capacitor", 15 IDAC1 (out) "Current DAC1 Output", 16 IDAC2 (out) "Current DAC2 Output", 17 RDAC "Current DAC Resistor", 23 BUFEN (in) "Buffer Enable Input", 24 ~{RESET} (in) "Active LOW, resets the entire chip.", 25 XIN (in) "Clock Input", 26 XOUT "Clock Output, used with crystal or resonator.", 27 ~{PDWN} (in) "Active LOW. Power Down. The power-down function shuts down the analog and digital circuits", 28 POL (in) "Serial Clock Polarity Input", 29 ~{DSYNC} (in) "Active LOW, Synchronization Control Input", 32 ~{DRDY} (out) "Active LOW, Data Ready Output", 33 ~{CS} (in) "Active LOW, Chip Select Input", 34 SCLK (in) "Serial Clock, Schmitt Trigger", 35 DIN (in) "Serial Data Input, Schmitt Trigger", 36 DOUT (hiz) "Serial Data Output", 37 D0 (io) "Digital I/O 0", 38 D1 (io) "Digital I/O 1", 39 D2 (io) "Digital I/O 2", 40 D3 (io) "Digital I/O 3", 41 D4 (io) "Digital I/O 4", 42 D5 (io) "Digital I/O 5", 43 D6 (io) "Digital I/O 6", 44 D7 (io) "Digital I/O 7", 46 VREFOUT (out) "Voltage Reference Output", 47 VREF+ (in) "Positive Differential Reference Input", 48 VREF- (in) "Negative Differential Reference Input"
part B pins: 1 AVDD (power) "Analog Power Supply", 2 AGND (power) "Analog Ground", 12 AGND (power) "Analog Ground", 13 AVDD (power) "Analog Power Supply", 18 DGND (power) "Digital Ground", 19 DGND (power) "Digital Ground", 20 DGND (power) "Digital Ground", 21 DGND (power) "Digital Ground", 22 DGND (power) "Digital Ground", 30 DGND (power) "Digital Ground", 31 DVDD (power) "Digital Power Supply", 45 AGND (power) "Analog Ground"

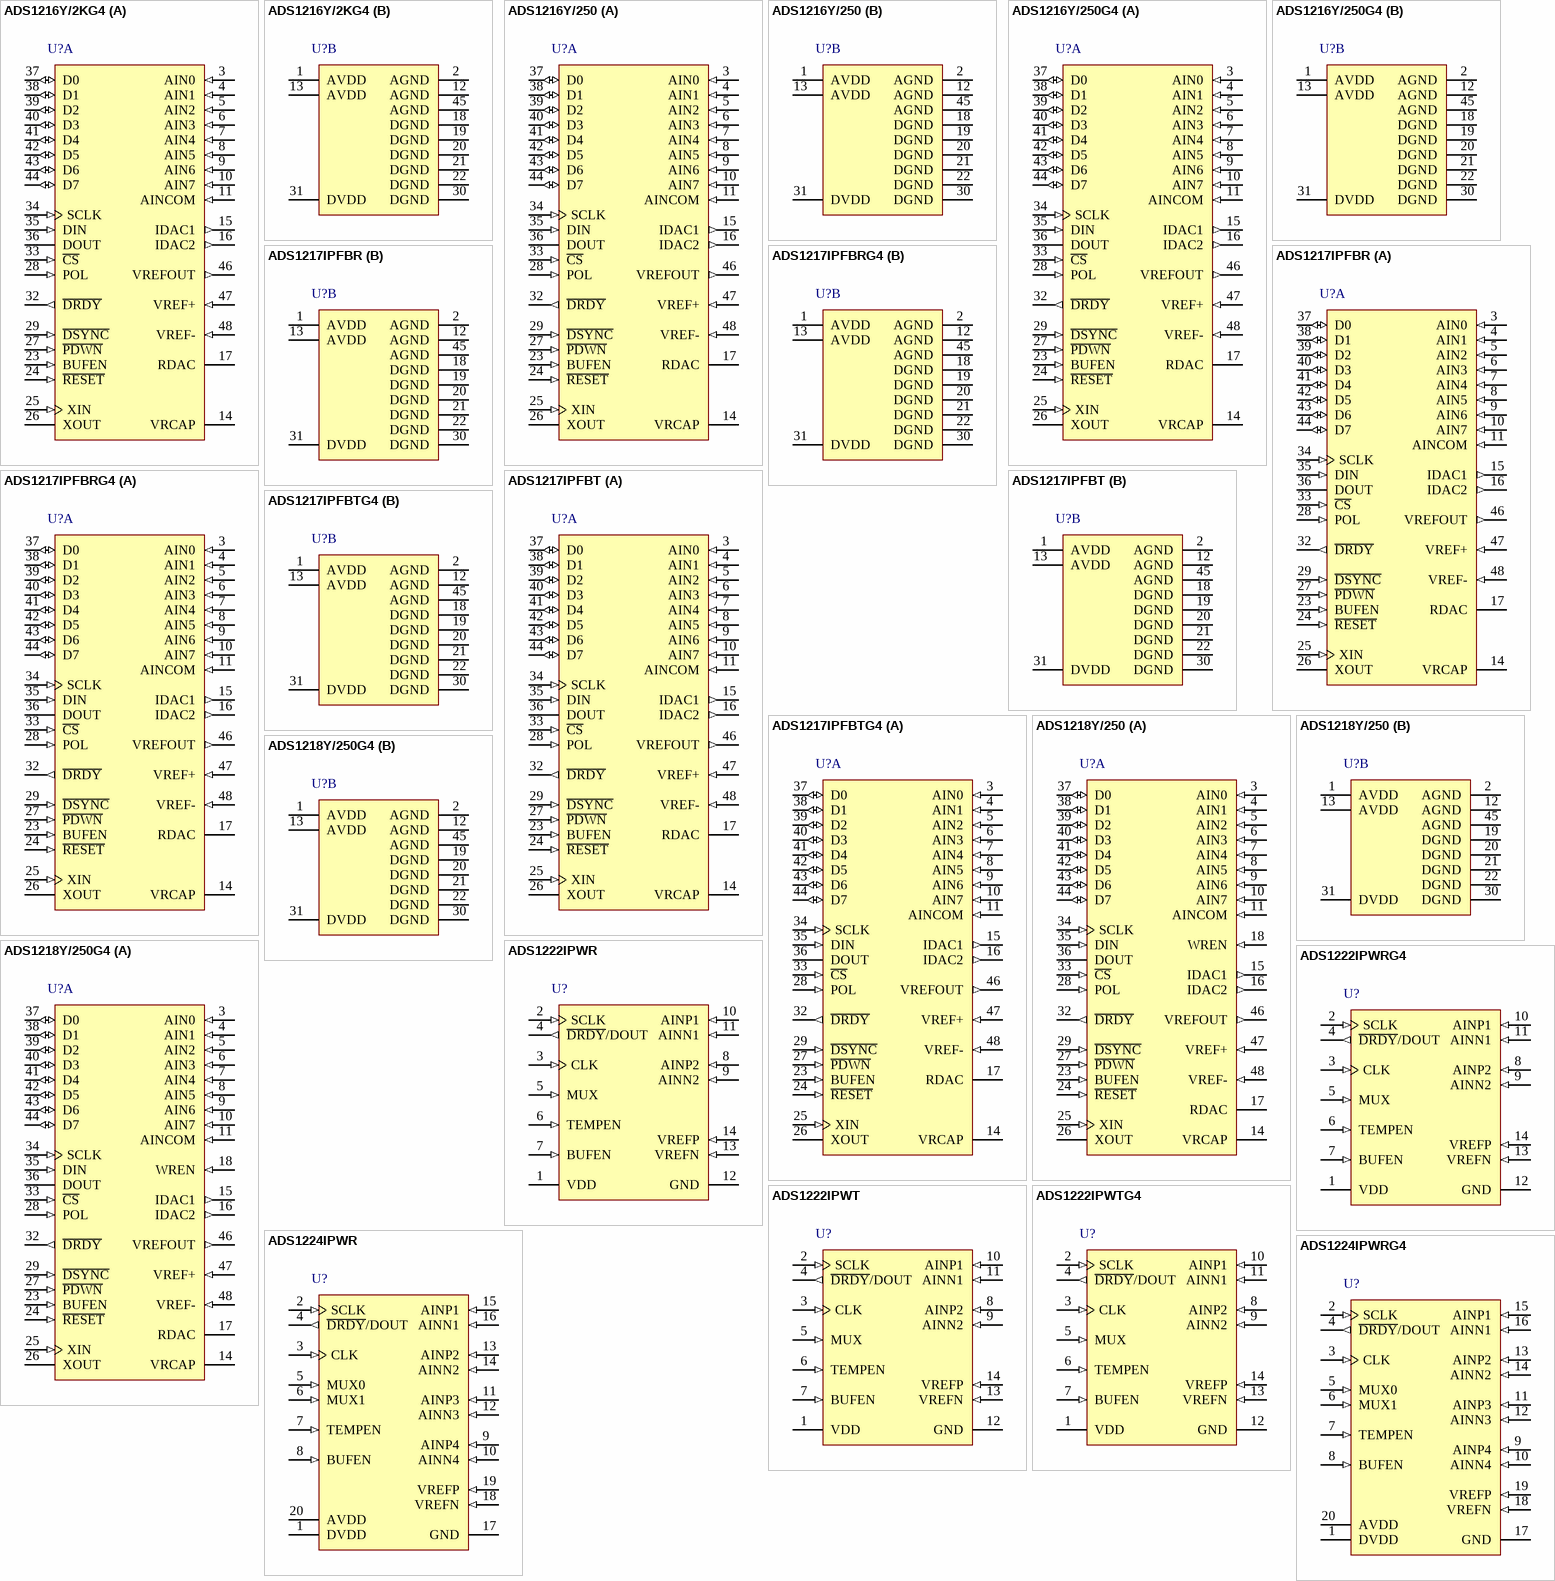
[diagram p19: symbols ADS1216Y/2KG4 to ADS1224IPWRG4]

## ADS1216Y/2KG4
designator U?
24-Bit ADC, -40 to 85 degC, 48-pin QFP (PFB48), Green (RoHS & no Sb/Br); Manufacturer: Texas Instruments; PartNumber: ADS1216Y/2KG4; # Input Channels: 8; Analog Voltage AV/DD(Max)(V): 5.25; Analog Voltage AV/DD(Min)(V): 2.7; Architecture: Delta-Sigma; ENOB(Bits): 22; Interface: Serial SPI; Resolution(Bits): 24; Sample Rate (max)(SPS): 780; SubFamily: Precision ADC (<=10MSPS); DatasheetVersion: SBAS171D; PackageVersion: 4073176/B, 10/1996; PackageReference: PFB48; PackageDescription: 48-Pin Plastic Flat Pack, Body 7 x 7 mm, Pitch 0.5 mm; Supplier 1: Digi-Key; Supplier Part Number 1: ADS8344NG4-ND; Digital Supply(Max)(V): 5.25; Digital Supply(Min)(V): 2.7; Eco-Plan: Green (RoHS & no Sb/Br); Mounting Technology: Surface Mount; Code_JEDEC: MS-026; ComponentLink1Description: Manufacturer URL; ComponentLink1URL: http://www.ti.com/; ComponentLink2Description: Datasheet; ComponentLink2URL: http://www.ti.com/general/docs/lit/getliterature.tsp?genericPartNumber=ADS1216&fileType=pdf; ComponentLink3Description: Package Specification; ComponentLink3URL: http://www.ti.com/lit/ml/mtqf019a/mtqf019a.pdf
footprint TI-PFB48_N (QFP, 48-Leads, Body 7x7mm, Pitch 0.5mm, IPC Medium Density)
footprint TI-PFB48_L (QFP, 48-Leads, Body 7x7mm, Pitch 0.5mm, IPC High Density)
footprint TI-PFB48_M (QFP, 48-Leads, Body 7x7mm, Pitch 0.5mm, IPC Low Density)
part A pins: 3 AIN0 (in) "Analog Input 0", 4 AIN1 (in) "Analog Input 1", 5 AIN2 (in) "Analog Input 2", 6 AIN3 (in) "Analog Input 3", 7 AIN4 (in) "Analog Input 4", 8 AIN5 (in) "Analog Input 5", 9 AIN6 (in) "Analog Input 6", 10 AIN7 (in) "Analog Input 7", 11 AINCOM (in) "Analog Input Common", 14 VRCAP "VREFOUT Bypass Capacitor", 15 IDAC1 (out) "Current DAC1 Output", 16 IDAC2 (out) "Current DAC2 Output", 17 RDAC "Current DAC Resistor", 23 BUFEN (in) "Buffer Enable Input", 24 ~{RESET} (in) "Active LOW, resets the entire chip.", 25 XIN (in) "Clock Input", 26 XOUT "Clock Output, used with crystal or resonator.", 27 ~{PDWN} (in) "Active LOW. Power Down. The power-down function shuts down the analog and digital circuits", 28 POL (in) "Serial Clock Polarity Input", 29 ~{DSYNC} (in) "Active LOW, Synchronization Control Input", 32 ~{DRDY} (out) "Active LOW, Data Ready Output", 33 ~{CS} (in) "Active LOW, Chip Select Input", 34 SCLK (in) "Serial Clock, Schmitt Trigger", 35 DIN (in) "Serial Data Input, Schmitt Trigger", 36 DOUT (hiz) "Serial Data Output", 37 D0 (io) "Digital I/O 0", 38 D1 (io) "Digital I/O 1", 39 D2 (io) "Digital I/O 2", 40 D3 (io) "Digital I/O 3", 41 D4 (io) "Digital I/O 4", 42 D5 (io) "Digital I/O 5", 43 D6 (io) "Digital I/O 6", 44 D7 (io) "Digital I/O 7", 46 VREFOUT (out) "Voltage Reference Output", 47 VREF+ (in) "Positive Differential Reference Input", 48 VREF- (in) "Negative Differential Reference Input"
part B pins: 1 AVDD (power) "Analog Power Supply", 2 AGND (power) "Analog Ground", 12 AGND (power) "Analog Ground", 13 AVDD (power) "Analog Power Supply", 18 DGND (power) "Digital Ground", 19 DGND (power) "Digital Ground", 20 DGND (power) "Digital Ground", 21 DGND (power) "Digital Ground", 22 DGND (power) "Digital Ground", 30 DGND (power) "Digital Ground", 31 DVDD (power) "Digital Power Supply", 45 AGND (power) "Analog Ground"

## ADS1216Y/250
designator U?
24-Bit ADC, -40 to 85 degC, 48-pin QFP (PFB48), Green (RoHS & no Sb/Br); Manufacturer: Texas Instruments; PartNumber: ADS1216Y/250; # Input Channels: 8; Analog Voltage AV/DD(Max)(V): 5.25; Analog Voltage AV/DD(Min)(V): 2.7; Architecture: Delta-Sigma; ENOB(Bits): 22; Interface: Serial SPI; Resolution(Bits): 24; Sample Rate (max)(SPS): 780; SubFamily: Precision ADC (<=10MSPS); DatasheetVersion: SBAS171D; PackageVersion: 4073176/B, 10/1996; PackageReference: PFB48; PackageDescription: 48-Pin Plastic Flat Pack, Body 7 x 7 mm, Pitch 0.5 mm; Supplier 1: Digi-Key; Supplier Part Number 1: ADS1254E/2K5TR-ND; Digital Supply(Max)(V): 5.25; Digital Supply(Min)(V): 2.7; Eco-Plan: Green (RoHS & no Sb/Br); Mounting Technology: Surface Mount; Code_JEDEC: MS-026; ComponentLink1Description: Manufacturer URL; ComponentLink1URL: http://www.ti.com/; ComponentLink2Description: Datasheet; ComponentLink2URL: http://www.ti.com/general/docs/lit/getliterature.tsp?genericPartNumber=ADS1216&fileType=pdf; ComponentLink3Description: Package Specification; ComponentLink3URL: http://www.ti.com/lit/ml/mtqf019a/mtqf019a.pdf
footprint TI-PFB48_N (QFP, 48-Leads, Body 7x7mm, Pitch 0.5mm, IPC Medium Density)
footprint TI-PFB48_L (QFP, 48-Leads, Body 7x7mm, Pitch 0.5mm, IPC High Density)
footprint TI-PFB48_M (QFP, 48-Leads, Body 7x7mm, Pitch 0.5mm, IPC Low Density)
part A pins: 3 AIN0 (in) "Analog Input 0", 4 AIN1 (in) "Analog Input 1", 5 AIN2 (in) "Analog Input 2", 6 AIN3 (in) "Analog Input 3", 7 AIN4 (in) "Analog Input 4", 8 AIN5 (in) "Analog Input 5", 9 AIN6 (in) "Analog Input 6", 10 AIN7 (in) "Analog Input 7", 11 AINCOM (in) "Analog Input Common", 14 VRCAP "VREFOUT Bypass Capacitor", 15 IDAC1 (out) "Current DAC1 Output", 16 IDAC2 (out) "Current DAC2 Output", 17 RDAC "Current DAC Resistor", 23 BUFEN (in) "Buffer Enable Input", 24 ~{RESET} (in) "Active LOW, resets the entire chip.", 25 XIN (in) "Clock Input", 26 XOUT "Clock Output, used with crystal or resonator.", 27 ~{PDWN} (in) "Active LOW. Power Down. The power-down function shuts down the analog and digital circuits", 28 POL (in) "Serial Clock Polarity Input", 29 ~{DSYNC} (in) "Active LOW, Synchronization Control Input", 32 ~{DRDY} (out) "Active LOW, Data Ready Output", 33 ~{CS} (in) "Active LOW, Chip Select Input", 34 SCLK (in) "Serial Clock, Schmitt Trigger", 35 DIN (in) "Serial Data Input, Schmitt Trigger", 36 DOUT (hiz) "Serial Data Output", 37 D0 (io) "Digital I/O 0", 38 D1 (io) "Digital I/O 1", 39 D2 (io) "Digital I/O 2", 40 D3 (io) "Digital I/O 3", 41 D4 (io) "Digital I/O 4", 42 D5 (io) "Digital I/O 5", 43 D6 (io) "Digital I/O 6", 44 D7 (io) "Digital I/O 7", 46 VREFOUT (out) "Voltage Reference Output", 47 VREF+ (in) "Positive Differential Reference Input", 48 VREF- (in) "Negative Differential Reference Input"
part B pins: 1 AVDD (power) "Analog Power Supply", 2 AGND (power) "Analog Ground", 12 AGND (power) "Analog Ground", 13 AVDD (power) "Analog Power Supply", 18 DGND (power) "Digital Ground", 19 DGND (power) "Digital Ground", 20 DGND (power) "Digital Ground", 21 DGND (power) "Digital Ground", 22 DGND (power) "Digital Ground", 30 DGND (power) "Digital Ground", 31 DVDD (power) "Digital Power Supply", 45 AGND (power) "Analog Ground"